# Altium integrated library Microchip PIC16 Part 1.IntLib: 1800 symbols (part 28 of 93)
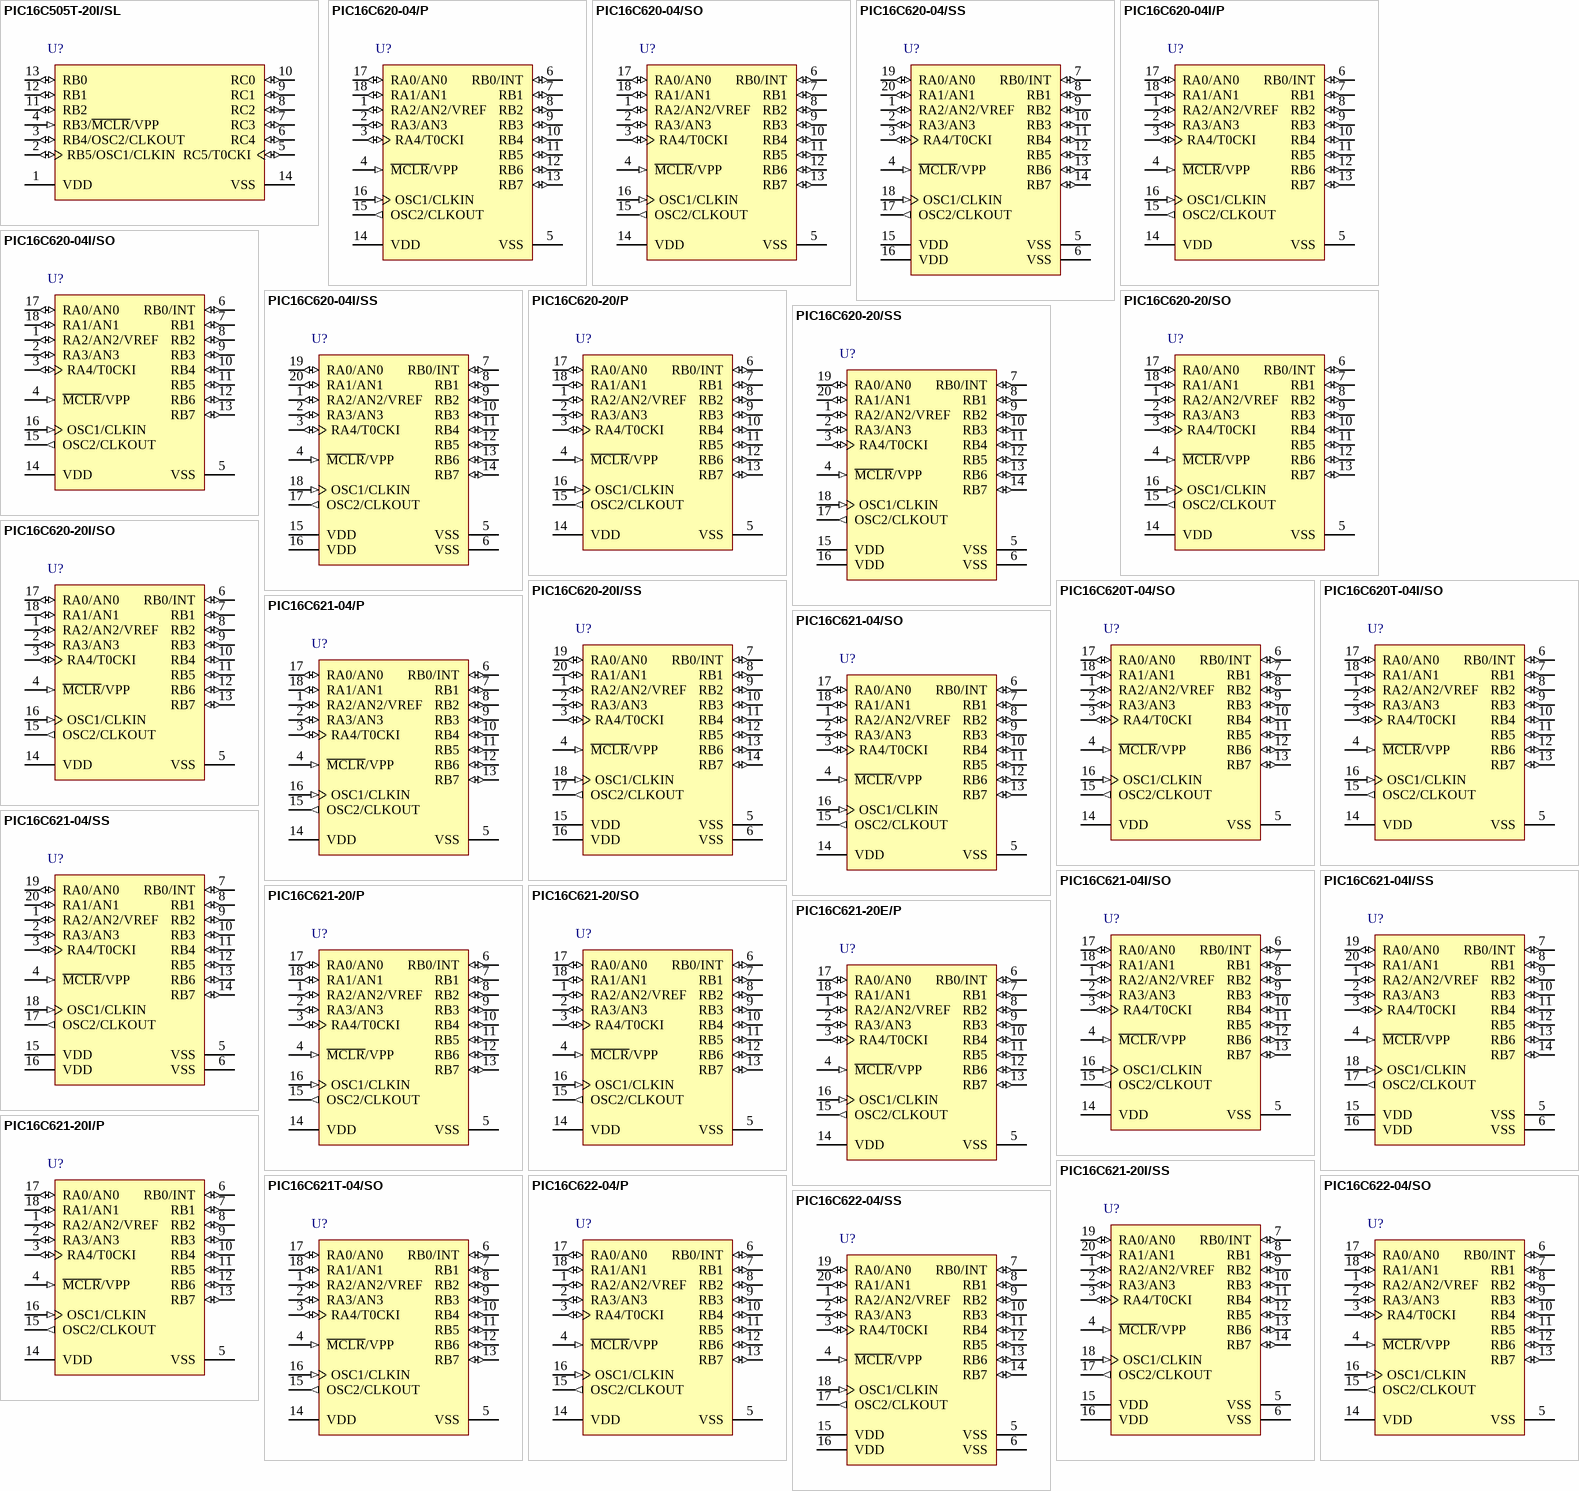
[diagram p127: symbols PIC16C505T-20I/SL to PIC16C622-04/SS]

## PIC16C621-20E/P
designator U?
EPROM-Based 8-Bit CMOS Microcontroller, 20 MHz, 13 I/O, -40 to 125 degC, 18-pin PDIP (P18), Tube; Manufacturer: Microchip; PartNumber: PIC16C621-20E/P; Digital Communication: 0 -UART, 1 -A/E/USART, 0 -SPI, 0 -I2C; I/O Pins: 13; Max. CPU Speed MHz: 20; Memory Type: Flash; Operation Voltage Range: 2.5V - 6V; Program Memory KBytes: 1.75; Program Memory KWords: 1; RAM: 128; Timers: 2 - 8-bit, 1 - 16-bit; DatasheetVersion: Rev. J; PackageVersion: C04-007B, 12/2012; PackageReference: PDIP-P18; PackageDescription: 18-Lead Plastic Dual In-Line, Row Spacing 7.62 mm, 22.86 x 6.6 mm Body, 2.54 mm Pitch; Supplier 1: Digi-Key; Supplier Part Number 1: PIC16C621-20E/P-ND; Supplier 2: Mouser; Supplier Part Number 2: 579-PIC16C621-20E/P; Packing: TUBE; RoHS: TRUE; Mounting Technology: Through Hole; ComponentLink1Description: Datasheet; ComponentLink1URL: http://ww1.microchip.com/downloads/en/DeviceDoc/30235j.pdf; ComponentLink2Description: Package Specification; ComponentLink2URL: http://www.microchip.com/stellent/groups/techpub_sg/documents/packagingspec/en012702.pdf; ComponentLink3Description: URL Link1; ComponentLink3URL: Product URL:http://www.microchip.com/datasheet/PIC16C621
footprint MCHP-PDIP-P18 (DIP, 18-Leads, Body 22.83x6.604mm, Pitch 2.54mm)
pins: 1 RA2/AN2/VREF (io), 2 RA3/AN3 (io), 3 RA4/T0CKI (io), 4 ~{MCLR}/VPP (in), 5 VSS (power) "Ground reference for logic and I/O pins.", 6 RB0/INT (io), 7 RB1 (io) "PORTB is a bi-directional I/O port. PORTB can be software programmed for internal weak pull-up on all inputs.", 8 RB2 (io) "PORTB is a bi-directional I/O port. PORTB can be software programmed for internal weak pull-up on all inputs.", 9 RB3 (io) "PORTB is a bi-directional I/O port. PORTB can be software programmed for internal weak pull-up on all inputs.", 10 RB4 (io) "PORTB is a bi-directional I/O port. PORTB can be software programmed for internal weak pull-up on all inputs. Interrupt-on-change pin.", 11 RB5 (io) "PORTB is a bi-directional I/O port. PORTB can be software programmed for internal weak pull-up on all inputs. Interrupt-on-change pin.", 12 RB6 (io) "PORTB is a bi-directional I/O port. PORTB can be software programmed for internal weak pull-up on all inputs. Interrupt on change pin. Serial programming clock.", 13 RB7 (io) "PORTB is a bi-directional I/O port. PORTB can be software programmed for internal weak pull-up on all inputs. Interrupt on change pin. Serial programming data.", 14 VDD (power) "Positive supply for logic and I/O pins.", 15 OSC2/CLKOUT (out), 16 OSC1/CLKIN (in), 17 RA0/AN0 (io), 18 RA1/AN1 (io)

## PIC16C621-20I/P
designator U?
EPROM-Based 8-Bit CMOS Microcontroller, 20 MHz, 13 I/O, -40 to 85 degC, 18-pin PDIP (P18), Tube; Manufacturer: Microchip; PartNumber: PIC16C621-20I/P; Digital Communication: 0 -UART, 1 -A/E/USART, 0 -SPI, 0 -I2C; I/O Pins: 13; Max. CPU Speed MHz: 20; Memory Type: Flash; Operation Voltage Range: 2.5V - 6V; Program Memory KBytes: 1.75; Program Memory KWords: 1; RAM: 128; Timers: 2 - 8-bit, 1 - 16-bit; DatasheetVersion: Rev. J; PackageVersion: C04-007B, 12/2012; PackageReference: PDIP-P18; PackageDescription: 18-Lead Plastic Dual In-Line, Row Spacing 7.62 mm, 22.86 x 6.6 mm Body, 2.54 mm Pitch; Supplier 1: Digi-Key; Supplier Part Number 1: PIC16C621-20I/P-ND; Supplier 2: Mouser; Supplier Part Number 2: 579-PIC16C621-20I/P; Packing: TUBE; RoHS: TRUE; Mounting Technology: Through Hole; ComponentLink1Description: Datasheet; ComponentLink1URL: http://ww1.microchip.com/downloads/en/DeviceDoc/30235j.pdf; ComponentLink2Description: Package Specification; ComponentLink2URL: http://www.microchip.com/stellent/groups/techpub_sg/documents/packagingspec/en012702.pdf; ComponentLink3Description: URL Link1; ComponentLink3URL: Product URL:http://www.microchip.com/datasheet/PIC16C621
footprint MCHP-PDIP-P18 (DIP, 18-Leads, Body 22.83x6.604mm, Pitch 2.54mm)
pins: 1 RA2/AN2/VREF (io), 2 RA3/AN3 (io), 3 RA4/T0CKI (io), 4 ~{MCLR}/VPP (in), 5 VSS (power) "Ground reference for logic and I/O pins.", 6 RB0/INT (io), 7 RB1 (io) "PORTB is a bi-directional I/O port. PORTB can be software programmed for internal weak pull-up on all inputs.", 8 RB2 (io) "PORTB is a bi-directional I/O port. PORTB can be software programmed for internal weak pull-up on all inputs.", 9 RB3 (io) "PORTB is a bi-directional I/O port. PORTB can be software programmed for internal weak pull-up on all inputs.", 10 RB4 (io) "PORTB is a bi-directional I/O port. PORTB can be software programmed for internal weak pull-up on all inputs. Interrupt-on-change pin.", 11 RB5 (io) "PORTB is a bi-directional I/O port. PORTB can be software programmed for internal weak pull-up on all inputs. Interrupt-on-change pin.", 12 RB6 (io) "PORTB is a bi-directional I/O port. PORTB can be software programmed for internal weak pull-up on all inputs. Interrupt on change pin. Serial programming clock.", 13 RB7 (io) "PORTB is a bi-directional I/O port. PORTB can be software programmed for internal weak pull-up on all inputs. Interrupt on change pin. Serial programming data.", 14 VDD (power) "Positive supply for logic and I/O pins.", 15 OSC2/CLKOUT (out), 16 OSC1/CLKIN (in), 17 RA0/AN0 (io), 18 RA1/AN1 (io)

## PIC16C621-20I/SS
designator U?
EPROM-Based 8-Bit CMOS Microcontroller, 20 MHz, 13 I/O, -40 to 85 degC, 20-pin SSOP (SS20), Tube; Manufacturer: Microchip; PartNumber: PIC16C621-20I/SS; Digital Communication: 0 -UART, 1 -A/E/USART, 0 -SPI, 0 -I2C; I/O Pins: 13; Max. CPU Speed MHz: 20; Memory Type: Flash; Operation Voltage Range: 2.5V - 6V; Program Memory KBytes: 1.75; Program Memory KWords: 1; RAM: 128; Timers: 2 - 8-bit, 1 - 16-bit; DatasheetVersion: Rev. J; PackageVersion: C04-072B, 12/2012; PackageReference: SSOP-SS20; PackageDescription: 20-Lead Plastic Shrink Small Outline, 5.3 x 7.2 mm Body, 0.65 mm Pitch; Supplier 1: Digi-Key; Supplier Part Number 1: PIC16C621-20I/SS-ND; Supplier 2: Mouser; Supplier Part Number 2: 579-PIC16C621-20I/SS; Packing: TUBE; RoHS: TRUE; Mounting Technology: Surface Mount; ComponentLink1Description: Datasheet; ComponentLink1URL: http://ww1.microchip.com/downloads/en/DeviceDoc/30235j.pdf; ComponentLink2Description: Package Specification; ComponentLink2URL: http://www.microchip.com/stellent/groups/techpub_sg/documents/packagingspec/en012702.pdf; ComponentLink3Description: URL Link1; ComponentLink3URL: Product URL:http://www.microchip.com/datasheet/PIC16C621
footprint MCHP-SSOP-SS20_N (SOP, 20-Leads, Body 7.2x5.3mm, Pitch 0.65mm, IPC Medium Density)
footprint MCHP-SSOP-SS20_L (SOP, 20-Leads, Body 7.2x5.3mm, Pitch 0.65mm, IPC High Density)
footprint MCHP-SSOP-SS20_M (SOP, 20-Leads, Body 7.2x5.3mm, Pitch 0.65mm, IPC Low Density)
pins: 1 RA2/AN2/VREF (io), 2 RA3/AN3 (io), 3 RA4/T0CKI (io), 4 ~{MCLR}/VPP (in), 5 VSS (power) "Ground reference for logic and I/O pins.", 6 VSS (power) "Ground reference for logic and I/O pins.", 7 RB0/INT (io), 8 RB1 (io) "PORTB is a bi-directional I/O port. PORTB can be software programmed for internal weak pull-up on all inputs.", 9 RB2 (io) "PORTB is a bi-directional I/O port. PORTB can be software programmed for internal weak pull-up on all inputs.", 10 RB3 (io) "PORTB is a bi-directional I/O port. PORTB can be software programmed for internal weak pull-up on all inputs.", 11 RB4 (io) "PORTB is a bi-directional I/O port. PORTB can be software programmed for internal weak pull-up on all inputs. Interrupt-on-change pin.", 12 RB5 (io) "PORTB is a bi-directional I/O port. PORTB can be software programmed for internal weak pull-up on all inputs. Interrupt-on-change pin.", 13 RB6 (io) "PORTB is a bi-directional I/O port. PORTB can be software programmed for internal weak pull-up on all inputs. Interrupt-on-change pin. Serial programming clock", 14 RB7 (io) "PORTB is a bi-directional I/O port. PORTB can be software programmed for internal weak pull-up on all inputs. Interrupt-on-change pin. Serial programming data", 15 VDD (power) "Positive supply for logic and I/O pins", 16 VDD (power) "Positive supply for logic and I/O pins", 17 OSC2/CLKOUT (out), 18 OSC1/CLKIN (in), 19 RA0/AN0 (io), 20 RA1/AN1 (io)

## PIC16C621T-04/SO
designator U?
EPROM-Based 8-Bit CMOS Microcontroller, 4 MHz, 13 I/O, 0 to 70 degC, 18-pin SOIC (SO18), Tape and Reel; Manufacturer: Microchip; PartNumber: PIC16C621T-04/SO; Digital Communication: 0 -UART, 1 -A/E/USART, 0 -SPI, 0 -I2C; I/O Pins: 13; Max. CPU Speed MHz: 4; Memory Type: OTP; Operation Voltage Range: 3V - 6V; Packing: T/R; Program Memory KBytes: 1.75; Program Memory KWords: 1; RAM: 80; Timers: 1 - 8-bit; DatasheetVersion: Rev. J; PackageVersion: C04-051C, 12/2012; PackageReference: SOIC-SO18; PackageDescription: 18-Lead Plastic Small Outline, 7.5 x 11.55 mm Body, 1.27 mm Pitch; Supplier 1: Digi-Key; Supplier Part Number 1: PIC16C621T-04/SO-ND; Supplier 2: Mouser; Supplier Part Number 2: 579-PIC16C621T-04/SO; RoHS: TRUE; Mounting Technology: Surface Mount; ComponentLink1Description: Datasheet; ComponentLink1URL: http://ww1.microchip.com/downloads/en/DeviceDoc/30235j.pdf; ComponentLink2Description: Package Specification; ComponentLink2URL: http://www.microchip.com/stellent/groups/techpub_sg/documents/packagingspec/en012702.pdf; ComponentLink3Description: URL Link1; ComponentLink3URL: Product URL:http://www.microchip.com/datasheet/PIC16C621
footprint MCHP-SOIC-SO18_N (SOIC, 18-Leads, Body 11.55x7.5mm, Pitch 1.27mm, IPC Medium Density)
footprint MCHP-SOIC-SO18_L (SOIC, 18-Leads, Body 11.55x7.5mm, Pitch 1.27mm, IPC High Density)
footprint MCHP-SOIC-SO18_M (SOIC, 18-Leads, Body 11.55x7.5mm, Pitch 1.27mm, IPC Low Density)
pins: 1 RA2/AN2/VREF (io), 2 RA3/AN3 (io), 3 RA4/T0CKI (io), 4 ~{MCLR}/VPP (in), 5 VSS (power) "Ground reference for logic and I/O pins.", 6 RB0/INT (io), 7 RB1 (io) "PORTB is a bi-directional I/O port. PORTB can be software programmed for internal weak pull-up on all inputs.", 8 RB2 (io) "PORTB is a bi-directional I/O port. PORTB can be software programmed for internal weak pull-up on all inputs.", 9 RB3 (io) "PORTB is a bi-directional I/O port. PORTB can be software programmed for internal weak pull-up on all inputs.", 10 RB4 (io) "PORTB is a bi-directional I/O port. PORTB can be software programmed for internal weak pull-up on all inputs. Interrupt-on-change pin.", 11 RB5 (io) "PORTB is a bi-directional I/O port. PORTB can be software programmed for internal weak pull-up on all inputs. Interrupt-on-change pin.", 12 RB6 (io) "PORTB is a bi-directional I/O port. PORTB can be software programmed for internal weak pull-up on all inputs. Interrupt on change pin. Serial programming clock.", 13 RB7 (io) "PORTB is a bi-directional I/O port. PORTB can be software programmed for internal weak pull-up on all inputs. Interrupt on change pin. Serial programming data.", 14 VDD (power) "Positive supply for logic and I/O pins.", 15 OSC2/CLKOUT (out), 16 OSC1/CLKIN (in), 17 RA0/AN0 (io), 18 RA1/AN1 (io)

## PIC16C622-04/P
designator U?
EPROM-Based 8-Bit CMOS Microcontroller, 4 MHz, 13 I/O, 0 to 70 degC, 18-pin PDIP (P18), Tube; Manufacturer: Microchip; PartNumber: PIC16C622-04/P; Digital Communication: 0 -UART, 1 -A/E/USART, 0 -SPI, 0 -I2C; I/O Pins: 13; Max. CPU Speed MHz: 4; Memory Type: OTP; Operation Voltage Range: 3V - 6V; Program Memory KBytes: 3.5; Program Memory KWords: 2; RAM: 128; Timers: 1 - 8-bit; DatasheetVersion: Rev. J; PackageVersion: C04-007B, 12/2012; PackageReference: PDIP-P18; PackageDescription: 18-Lead Plastic Dual In-Line, Row Spacing 7.62 mm, 22.86 x 6.6 mm Body, 2.54 mm Pitch; Supplier 1: Digi-Key; Supplier Part Number 1: PIC16C622-04/P-ND; Supplier 2: Mouser; Supplier Part Number 2: 579-PIC16C622-04/P; Packing: TUBE; RoHS: TRUE; Mounting Technology: Through Hole; ComponentLink1Description: Datasheet; ComponentLink1URL: http://ww1.microchip.com/downloads/en/DeviceDoc/30235j.pdf; ComponentLink2Description: Package Specification; ComponentLink2URL: http://www.microchip.com/stellent/groups/techpub_sg/documents/packagingspec/en012702.pdf; ComponentLink3Description: URL Link1; ComponentLink3URL: Product URL:http://www.microchip.com/datasheet/PIC16C622
footprint MCHP-PDIP-P18 (DIP, 18-Leads, Body 22.83x6.604mm, Pitch 2.54mm)
pins: 1 RA2/AN2/VREF (io), 2 RA3/AN3 (io), 3 RA4/T0CKI (io), 4 ~{MCLR}/VPP (in), 5 VSS (power) "Ground reference for logic and I/O pins.", 6 RB0/INT (io), 7 RB1 (io) "PORTB is a bi-directional I/O port. PORTB can be software programmed for internal weak pull-up on all inputs.", 8 RB2 (io) "PORTB is a bi-directional I/O port. PORTB can be software programmed for internal weak pull-up on all inputs.", 9 RB3 (io) "PORTB is a bi-directional I/O port. PORTB can be software programmed for internal weak pull-up on all inputs.", 10 RB4 (io) "PORTB is a bi-directional I/O port. PORTB can be software programmed for internal weak pull-up on all inputs. Interrupt-on-change pin.", 11 RB5 (io) "PORTB is a bi-directional I/O port. PORTB can be software programmed for internal weak pull-up on all inputs. Interrupt-on-change pin.", 12 RB6 (io) "PORTB is a bi-directional I/O port. PORTB can be software programmed for internal weak pull-up on all inputs. Interrupt on change pin. Serial programming clock.", 13 RB7 (io) "PORTB is a bi-directional I/O port. PORTB can be software programmed for internal weak pull-up on all inputs. Interrupt on change pin. Serial programming data.", 14 VDD (power) "Positive supply for logic and I/O pins.", 15 OSC2/CLKOUT (out), 16 OSC1/CLKIN (in), 17 RA0/AN0 (io), 18 RA1/AN1 (io)

## PIC16C622-04/SO
designator U?
EPROM-Based 8-Bit CMOS Microcontroller, 4 MHz, 13 I/O, 0 to 70 degC, 18-pin SOIC (SO18), Tube; Manufacturer: Microchip; PartNumber: PIC16C622-04/SO; Digital Communication: 0 -UART, 1 -A/E/USART, 0 -SPI, 0 -I2C; I/O Pins: 13; Max. CPU Speed MHz: 4; Memory Type: OTP; Operation Voltage Range: 3V - 6V; Program Memory KBytes: 3.5; Program Memory KWords: 2; RAM: 128; Timers: 1 - 8-bit; DatasheetVersion: Rev. J; PackageVersion: C04-051C, 12/2012; PackageReference: SOIC-SO18; PackageDescription: 18-Lead Plastic Small Outline, 7.5 x 11.55 mm Body, 1.27 mm Pitch; Supplier 1: Digi-Key; Supplier Part Number 1: PIC16C622-04/SO-ND; Supplier 2: Mouser; Supplier Part Number 2: 579-PIC16C622-04/SO; Packing: TUBE; RoHS: TRUE; Mounting Technology: Surface Mount; ComponentLink1Description: Datasheet; ComponentLink1URL: http://ww1.microchip.com/downloads/en/DeviceDoc/30235j.pdf; ComponentLink2Description: Package Specification; ComponentLink2URL: http://www.microchip.com/stellent/groups/techpub_sg/documents/packagingspec/en012702.pdf; ComponentLink3Description: URL Link1; ComponentLink3URL: Product URL:http://www.microchip.com/datasheet/PIC16C622
footprint MCHP-SOIC-SO18_N (SOIC, 18-Leads, Body 11.55x7.5mm, Pitch 1.27mm, IPC Medium Density)
footprint MCHP-SOIC-SO18_L (SOIC, 18-Leads, Body 11.55x7.5mm, Pitch 1.27mm, IPC High Density)
footprint MCHP-SOIC-SO18_M (SOIC, 18-Leads, Body 11.55x7.5mm, Pitch 1.27mm, IPC Low Density)
pins: 1 RA2/AN2/VREF (io), 2 RA3/AN3 (io), 3 RA4/T0CKI (io), 4 ~{MCLR}/VPP (in), 5 VSS (power) "Ground reference for logic and I/O pins.", 6 RB0/INT (io), 7 RB1 (io) "PORTB is a bi-directional I/O port. PORTB can be software programmed for internal weak pull-up on all inputs.", 8 RB2 (io) "PORTB is a bi-directional I/O port. PORTB can be software programmed for internal weak pull-up on all inputs.", 9 RB3 (io) "PORTB is a bi-directional I/O port. PORTB can be software programmed for internal weak pull-up on all inputs.", 10 RB4 (io) "PORTB is a bi-directional I/O port. PORTB can be software programmed for internal weak pull-up on all inputs. Interrupt-on-change pin.", 11 RB5 (io) "PORTB is a bi-directional I/O port. PORTB can be software programmed for internal weak pull-up on all inputs. Interrupt-on-change pin.", 12 RB6 (io) "PORTB is a bi-directional I/O port. PORTB can be software programmed for internal weak pull-up on all inputs. Interrupt on change pin. Serial programming clock.", 13 RB7 (io) "PORTB is a bi-directional I/O port. PORTB can be software programmed for internal weak pull-up on all inputs. Interrupt on change pin. Serial programming data.", 14 VDD (power) "Positive supply for logic and I/O pins.", 15 OSC2/CLKOUT (out), 16 OSC1/CLKIN (in), 17 RA0/AN0 (io), 18 RA1/AN1 (io)

## PIC16C622-04/SS
designator U?
EPROM-Based 8-Bit CMOS Microcontroller, 4 MHz, 13 I/O, 0 to 70 degC, 20-pin SSOP (SS20), Tube; Manufacturer: Microchip; PartNumber: PIC16C622-04/SS; Digital Communication: 0 -UART, 1 -A/E/USART, 0 -SPI, 0 -I2C; I/O Pins: 13; Max. CPU Speed MHz: 4; Memory Type: OTP; Operation Voltage Range: 3V - 6V; Program Memory KBytes: 3.5; Program Memory KWords: 2; RAM: 128; Timers: 1 - 8-bit; DatasheetVersion: Rev. J; PackageVersion: C04-072B, 12/2012; PackageReference: SSOP-SS20; PackageDescription: 20-Lead Plastic Shrink Small Outline, 5.3 x 7.2 mm Body, 0.65 mm Pitch; Supplier 1: Digi-Key; Supplier Part Number 1: PIC16C622-04/SS-ND; Supplier 2: Mouser; Supplier Part Number 2: 579-PIC16C622-04/SS; Packing: TUBE; RoHS: TRUE; Mounting Technology: Surface Mount; ComponentLink1Description: Datasheet; ComponentLink1URL: http://ww1.microchip.com/downloads/en/DeviceDoc/30235j.pdf; ComponentLink2Description: Package Specification; ComponentLink2URL: http://www.microchip.com/stellent/groups/techpub_sg/documents/packagingspec/en012702.pdf; ComponentLink3Description: URL Link1; ComponentLink3URL: Product URL:http://www.microchip.com/datasheet/PIC16C622
footprint MCHP-SSOP-SS20_N (SOP, 20-Leads, Body 7.2x5.3mm, Pitch 0.65mm, IPC Medium Density)
footprint MCHP-SSOP-SS20_L (SOP, 20-Leads, Body 7.2x5.3mm, Pitch 0.65mm, IPC High Density)
footprint MCHP-SSOP-SS20_M (SOP, 20-Leads, Body 7.2x5.3mm, Pitch 0.65mm, IPC Low Density)
pins: 1 RA2/AN2/VREF (io), 2 RA3/AN3 (io), 3 RA4/T0CKI (io), 4 ~{MCLR}/VPP (in), 5 VSS (power) "Ground reference for logic and I/O pins.", 6 VSS (power) "Ground reference for logic and I/O pins.", 7 RB0/INT (io), 8 RB1 (io) "PORTB is a bi-directional I/O port. PORTB can be software programmed for internal weak pull-up on all inputs.", 9 RB2 (io) "PORTB is a bi-directional I/O port. PORTB can be software programmed for internal weak pull-up on all inputs.", 10 RB3 (io) "PORTB is a bi-directional I/O port. PORTB can be software programmed for internal weak pull-up on all inputs.", 11 RB4 (io) "PORTB is a bi-directional I/O port. PORTB can be software programmed for internal weak pull-up on all inputs. Interrupt-on-change pin.", 12 RB5 (io) "PORTB is a bi-directional I/O port. PORTB can be software programmed for internal weak pull-up on all inputs. Interrupt-on-change pin.", 13 RB6 (io) "PORTB is a bi-directional I/O port. PORTB can be software programmed for internal weak pull-up on all inputs. Interrupt-on-change pin. Serial programming clock", 14 RB7 (io) "PORTB is a bi-directional I/O port. PORTB can be software programmed for internal weak pull-up on all inputs. Interrupt-on-change pin. Serial programming data", 15 VDD (power) "Positive supply for logic and I/O pins", 16 VDD (power) "Positive supply for logic and I/O pins", 17 OSC2/CLKOUT (out), 18 OSC1/CLKIN (in), 19 RA0/AN0 (io), 20 RA1/AN1 (io)

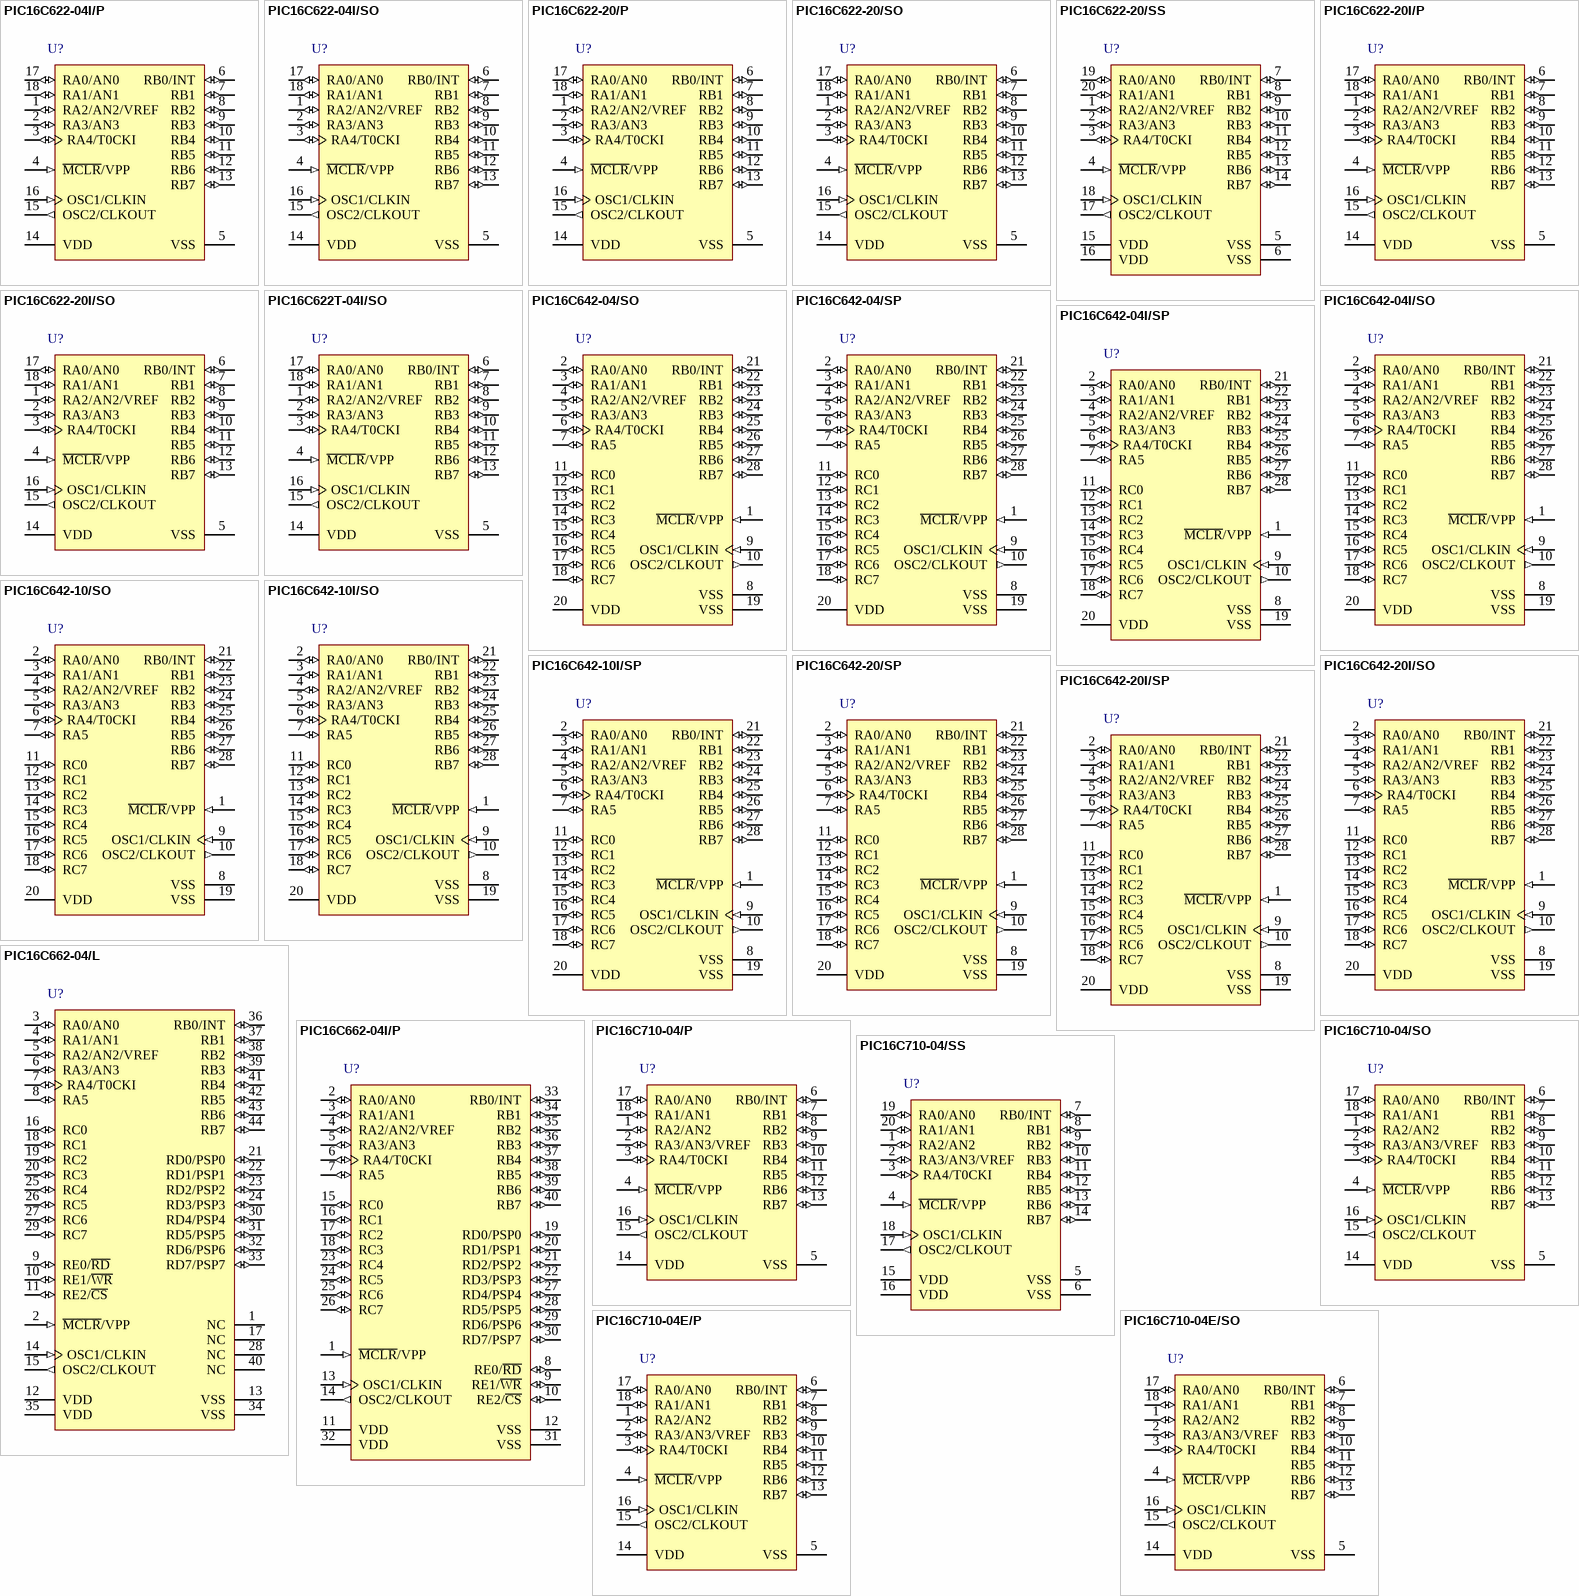
[diagram p25: symbols PIC16C622-04I/P to PIC16C710-04E/SO]

## PIC16C622-04I/P
designator U?
EPROM-Based 8-Bit CMOS Microcontroller, 4 MHz, 13 I/O, -40 to 85 degC, 18-pin PDIP (P18), Tube; Manufacturer: Microchip; PartNumber: PIC16C622-04I/P; Digital Communication: 0 -UART, 1 -A/E/USART, 0 -SPI, 0 -I2C; I/O Pins: 13; Max. CPU Speed MHz: 4; Memory Type: OTP; Operation Voltage Range: 3V - 6V; Program Memory KBytes: 3.5; Program Memory KWords: 2; RAM: 128; Timers: 1 - 8-bit; DatasheetVersion: Rev. J; PackageVersion: C04-007B, 12/2012; PackageReference: PDIP-P18; PackageDescription: 18-Lead Plastic Dual In-Line, Row Spacing 7.62 mm, 22.86 x 6.6 mm Body, 2.54 mm Pitch; Supplier 1: Digi-Key; Supplier Part Number 1: PIC16C622-04I/P-ND; Supplier 2: Mouser; Supplier Part Number 2: 579-PIC16C622-04I/P; Packing: TUBE; RoHS: TRUE; Mounting Technology: Through Hole; ComponentLink1Description: Datasheet; ComponentLink1URL: http://ww1.microchip.com/downloads/en/DeviceDoc/30235j.pdf; ComponentLink2Description: Package Specification; ComponentLink2URL: http://www.microchip.com/stellent/groups/techpub_sg/documents/packagingspec/en012702.pdf; ComponentLink3Description: URL Link1; ComponentLink3URL: Product URL:http://www.microchip.com/datasheet/PIC16C622
footprint MCHP-PDIP-P18 (DIP, 18-Leads, Body 22.83x6.604mm, Pitch 2.54mm)
pins: 1 RA2/AN2/VREF (io), 2 RA3/AN3 (io), 3 RA4/T0CKI (io), 4 ~{MCLR}/VPP (in), 5 VSS (power) "Ground reference for logic and I/O pins.", 6 RB0/INT (io), 7 RB1 (io) "PORTB is a bi-directional I/O port. PORTB can be software programmed for internal weak pull-up on all inputs.", 8 RB2 (io) "PORTB is a bi-directional I/O port. PORTB can be software programmed for internal weak pull-up on all inputs.", 9 RB3 (io) "PORTB is a bi-directional I/O port. PORTB can be software programmed for internal weak pull-up on all inputs.", 10 RB4 (io) "PORTB is a bi-directional I/O port. PORTB can be software programmed for internal weak pull-up on all inputs. Interrupt-on-change pin.", 11 RB5 (io) "PORTB is a bi-directional I/O port. PORTB can be software programmed for internal weak pull-up on all inputs. Interrupt-on-change pin.", 12 RB6 (io) "PORTB is a bi-directional I/O port. PORTB can be software programmed for internal weak pull-up on all inputs. Interrupt on change pin. Serial programming clock.", 13 RB7 (io) "PORTB is a bi-directional I/O port. PORTB can be software programmed for internal weak pull-up on all inputs. Interrupt on change pin. Serial programming data.", 14 VDD (power) "Positive supply for logic and I/O pins.", 15 OSC2/CLKOUT (out), 16 OSC1/CLKIN (in), 17 RA0/AN0 (io), 18 RA1/AN1 (io)

## PIC16C622-04I/SO
designator U?
EPROM-Based 8-Bit CMOS Microcontroller, 4 MHz, 13 I/O, -40 to 85 degC, 18-pin SOIC (SO18), Tube; Manufacturer: Microchip; PartNumber: PIC16C622-04I/SO; Digital Communication: 0 -UART, 1 -A/E/USART, 0 -SPI, 0 -I2C; I/O Pins: 13; Max. CPU Speed MHz: 4; Memory Type: OTP; Operation Voltage Range: 3V - 6V; Program Memory KBytes: 3.5; Program Memory KWords: 2; RAM: 128; Timers: 1 - 8-bit; DatasheetVersion: Rev. J; PackageVersion: C04-051C, 12/2012; PackageReference: SOIC-SO18; PackageDescription: 18-Lead Plastic Small Outline, 7.5 x 11.55 mm Body, 1.27 mm Pitch; Supplier 1: Digi-Key; Supplier Part Number 1: PIC16C622-04I/SO-ND; Supplier 2: Mouser; Supplier Part Number 2: 579-PIC16C622-04I/SO; Packing: TUBE; RoHS: TRUE; Mounting Technology: Surface Mount; ComponentLink1Description: Datasheet; ComponentLink1URL: http://ww1.microchip.com/downloads/en/DeviceDoc/30235j.pdf; ComponentLink2Description: Package Specification; ComponentLink2URL: http://www.microchip.com/stellent/groups/techpub_sg/documents/packagingspec/en012702.pdf; ComponentLink3Description: URL Link1; ComponentLink3URL: Product URL:http://www.microchip.com/datasheet/PIC16C622
footprint MCHP-SOIC-SO18_N (SOIC, 18-Leads, Body 11.55x7.5mm, Pitch 1.27mm, IPC Medium Density)
footprint MCHP-SOIC-SO18_L (SOIC, 18-Leads, Body 11.55x7.5mm, Pitch 1.27mm, IPC High Density)
footprint MCHP-SOIC-SO18_M (SOIC, 18-Leads, Body 11.55x7.5mm, Pitch 1.27mm, IPC Low Density)
pins: 1 RA2/AN2/VREF (io), 2 RA3/AN3 (io), 3 RA4/T0CKI (io), 4 ~{MCLR}/VPP (in), 5 VSS (power) "Ground reference for logic and I/O pins.", 6 RB0/INT (io), 7 RB1 (io) "PORTB is a bi-directional I/O port. PORTB can be software programmed for internal weak pull-up on all inputs.", 8 RB2 (io) "PORTB is a bi-directional I/O port. PORTB can be software programmed for internal weak pull-up on all inputs.", 9 RB3 (io) "PORTB is a bi-directional I/O port. PORTB can be software programmed for internal weak pull-up on all inputs.", 10 RB4 (io) "PORTB is a bi-directional I/O port. PORTB can be software programmed for internal weak pull-up on all inputs. Interrupt-on-change pin.", 11 RB5 (io) "PORTB is a bi-directional I/O port. PORTB can be software programmed for internal weak pull-up on all inputs. Interrupt-on-change pin.", 12 RB6 (io) "PORTB is a bi-directional I/O port. PORTB can be software programmed for internal weak pull-up on all inputs. Interrupt on change pin. Serial programming clock.", 13 RB7 (io) "PORTB is a bi-directional I/O port. PORTB can be software programmed for internal weak pull-up on all inputs. Interrupt on change pin. Serial programming data.", 14 VDD (power) "Positive supply for logic and I/O pins.", 15 OSC2/CLKOUT (out), 16 OSC1/CLKIN (in), 17 RA0/AN0 (io), 18 RA1/AN1 (io)

## PIC16C622-20/P
designator U?
EPROM-Based 8-Bit CMOS Microcontroller, 20 MHz, 13 I/O, 0 to 70 degC, 18-pin PDIP (P18), Tube; Manufacturer: Microchip; PartNumber: PIC16C622-20/P; Digital Communication: 0 -UART, 1 -A/E/USART, 0 -SPI, 0 -I2C; I/O Pins: 13; Max. CPU Speed MHz: 20; Memory Type: OTP; Operation Voltage Range: 3V - 6V; Program Memory KBytes: 3.5; Program Memory KWords: 2; RAM: 128; Timers: 1 - 8-bit; DatasheetVersion: Rev. J; PackageVersion: C04-007B, 12/2012; PackageReference: PDIP-P18; PackageDescription: 18-Lead Plastic Dual In-Line, Row Spacing 7.62 mm, 22.86 x 6.6 mm Body, 2.54 mm Pitch; Supplier 1: Digi-Key; Supplier Part Number 1: PIC16C622-20/P-ND; Supplier 2: Mouser; Supplier Part Number 2: 579-PIC16C622-20/P; Packing: TUBE; RoHS: TRUE; Mounting Technology: Through Hole; ComponentLink1Description: Datasheet; ComponentLink1URL: http://ww1.microchip.com/downloads/en/DeviceDoc/30235j.pdf; ComponentLink2Description: Package Specification; ComponentLink2URL: http://www.microchip.com/stellent/groups/techpub_sg/documents/packagingspec/en012702.pdf; ComponentLink3Description: URL Link1; ComponentLink3URL: Product URL:http://www.microchip.com/datasheet/PIC16C622
footprint MCHP-PDIP-P18 (DIP, 18-Leads, Body 22.83x6.604mm, Pitch 2.54mm)
pins: 1 RA2/AN2/VREF (io), 2 RA3/AN3 (io), 3 RA4/T0CKI (io), 4 ~{MCLR}/VPP (in), 5 VSS (power) "Ground reference for logic and I/O pins.", 6 RB0/INT (io), 7 RB1 (io) "PORTB is a bi-directional I/O port. PORTB can be software programmed for internal weak pull-up on all inputs.", 8 RB2 (io) "PORTB is a bi-directional I/O port. PORTB can be software programmed for internal weak pull-up on all inputs.", 9 RB3 (io) "PORTB is a bi-directional I/O port. PORTB can be software programmed for internal weak pull-up on all inputs.", 10 RB4 (io) "PORTB is a bi-directional I/O port. PORTB can be software programmed for internal weak pull-up on all inputs. Interrupt-on-change pin.", 11 RB5 (io) "PORTB is a bi-directional I/O port. PORTB can be software programmed for internal weak pull-up on all inputs. Interrupt-on-change pin.", 12 RB6 (io) "PORTB is a bi-directional I/O port. PORTB can be software programmed for internal weak pull-up on all inputs. Interrupt on change pin. Serial programming clock.", 13 RB7 (io) "PORTB is a bi-directional I/O port. PORTB can be software programmed for internal weak pull-up on all inputs. Interrupt on change pin. Serial programming data.", 14 VDD (power) "Positive supply for logic and I/O pins.", 15 OSC2/CLKOUT (out), 16 OSC1/CLKIN (in), 17 RA0/AN0 (io), 18 RA1/AN1 (io)

## PIC16C622-20/SO
designator U?
EPROM-Based 8-Bit CMOS Microcontroller, 20 MHz, 13 I/O, 0 to 70 degC, 18-pin SOIC (SO18), Tube; Manufacturer: Microchip; PartNumber: PIC16C622-20/SO; Digital Communication: 0 -UART, 1 -A/E/USART, 0 -SPI, 0 -I2C; I/O Pins: 13; Max. CPU Speed MHz: 20; Memory Type: OTP; Operation Voltage Range: 3V - 6V; Program Memory KBytes: 3.5; Program Memory KWords: 2; RAM: 128; Timers: 1 - 8-bit; DatasheetVersion: Rev. J; PackageVersion: C04-051C, 12/2012; PackageReference: SOIC-SO18; PackageDescription: 18-Lead Plastic Small Outline, 7.5 x 11.55 mm Body, 1.27 mm Pitch; Supplier 1: Digi-Key; Supplier Part Number 1: PIC16C622-20/SO-ND; Supplier 2: Mouser; Supplier Part Number 2: 579-PIC16C622-20/SO; Packing: TUBE; RoHS: TRUE; Mounting Technology: Surface Mount; ComponentLink1Description: Datasheet; ComponentLink1URL: http://ww1.microchip.com/downloads/en/DeviceDoc/30235j.pdf; ComponentLink2Description: Package Specification; ComponentLink2URL: http://www.microchip.com/stellent/groups/techpub_sg/documents/packagingspec/en012702.pdf; ComponentLink3Description: URL Link1; ComponentLink3URL: Product URL:http://www.microchip.com/datasheet/PIC16C622
footprint MCHP-SOIC-SO18_N (SOIC, 18-Leads, Body 11.55x7.5mm, Pitch 1.27mm, IPC Medium Density)
footprint MCHP-SOIC-SO18_L (SOIC, 18-Leads, Body 11.55x7.5mm, Pitch 1.27mm, IPC High Density)
footprint MCHP-SOIC-SO18_M (SOIC, 18-Leads, Body 11.55x7.5mm, Pitch 1.27mm, IPC Low Density)
pins: 1 RA2/AN2/VREF (io), 2 RA3/AN3 (io), 3 RA4/T0CKI (io), 4 ~{MCLR}/VPP (in), 5 VSS (power) "Ground reference for logic and I/O pins.", 6 RB0/INT (io), 7 RB1 (io) "PORTB is a bi-directional I/O port. PORTB can be software programmed for internal weak pull-up on all inputs.", 8 RB2 (io) "PORTB is a bi-directional I/O port. PORTB can be software programmed for internal weak pull-up on all inputs.", 9 RB3 (io) "PORTB is a bi-directional I/O port. PORTB can be software programmed for internal weak pull-up on all inputs.", 10 RB4 (io) "PORTB is a bi-directional I/O port. PORTB can be software programmed for internal weak pull-up on all inputs. Interrupt-on-change pin.", 11 RB5 (io) "PORTB is a bi-directional I/O port. PORTB can be software programmed for internal weak pull-up on all inputs. Interrupt-on-change pin.", 12 RB6 (io) "PORTB is a bi-directional I/O port. PORTB can be software programmed for internal weak pull-up on all inputs. Interrupt on change pin. Serial programming clock.", 13 RB7 (io) "PORTB is a bi-directional I/O port. PORTB can be software programmed for internal weak pull-up on all inputs. Interrupt on change pin. Serial programming data.", 14 VDD (power) "Positive supply for logic and I/O pins.", 15 OSC2/CLKOUT (out), 16 OSC1/CLKIN (in), 17 RA0/AN0 (io), 18 RA1/AN1 (io)

## PIC16C622-20/SS
designator U?
EPROM-Based 8-Bit CMOS Microcontroller, 20 MHz, 13 I/O, 0 to 70 degC, 20-pin SSOP (SS20), Tube; Manufacturer: Microchip; PartNumber: PIC16C622-20/SS; Digital Communication: 0 -UART, 1 -A/E/USART, 0 -SPI, 0 -I2C; I/O Pins: 13; Max. CPU Speed MHz: 20; Memory Type: OTP; Operation Voltage Range: 3V - 6V; Program Memory KBytes: 3.5; Program Memory KWords: 2; RAM: 128; Timers: 1 - 8-bit; DatasheetVersion: Rev. J; PackageVersion: C04-072B, 12/2012; PackageReference: SSOP-SS20; PackageDescription: 20-Lead Plastic Shrink Small Outline, 5.3 x 7.2 mm Body, 0.65 mm Pitch; Supplier 1: Digi-Key; Supplier Part Number 1: PIC16C622-20/SS-ND; Supplier 2: Mouser; Supplier Part Number 2: 579-PIC16C622-20/SS; Packing: TUBE; RoHS: TRUE; Mounting Technology: Surface Mount; ComponentLink1Description: Datasheet; ComponentLink1URL: http://ww1.microchip.com/downloads/en/DeviceDoc/30235j.pdf; ComponentLink2Description: Package Specification; ComponentLink2URL: http://www.microchip.com/stellent/groups/techpub_sg/documents/packagingspec/en012702.pdf; ComponentLink3Description: URL Link1; ComponentLink3URL: Product URL:http://www.microchip.com/datasheet/PIC16C622
footprint MCHP-SSOP-SS20_N (SOP, 20-Leads, Body 7.2x5.3mm, Pitch 0.65mm, IPC Medium Density)
footprint MCHP-SSOP-SS20_L (SOP, 20-Leads, Body 7.2x5.3mm, Pitch 0.65mm, IPC High Density)
footprint MCHP-SSOP-SS20_M (SOP, 20-Leads, Body 7.2x5.3mm, Pitch 0.65mm, IPC Low Density)
pins: 1 RA2/AN2/VREF (io), 2 RA3/AN3 (io), 3 RA4/T0CKI (io), 4 ~{MCLR}/VPP (in), 5 VSS (power) "Ground reference for logic and I/O pins.", 6 VSS (power) "Ground reference for logic and I/O pins.", 7 RB0/INT (io), 8 RB1 (io) "PORTB is a bi-directional I/O port. PORTB can be software programmed for internal weak pull-up on all inputs.", 9 RB2 (io) "PORTB is a bi-directional I/O port. PORTB can be software programmed for internal weak pull-up on all inputs.", 10 RB3 (io) "PORTB is a bi-directional I/O port. PORTB can be software programmed for internal weak pull-up on all inputs.", 11 RB4 (io) "PORTB is a bi-directional I/O port. PORTB can be software programmed for internal weak pull-up on all inputs. Interrupt-on-change pin.", 12 RB5 (io) "PORTB is a bi-directional I/O port. PORTB can be software programmed for internal weak pull-up on all inputs. Interrupt-on-change pin.", 13 RB6 (io) "PORTB is a bi-directional I/O port. PORTB can be software programmed for internal weak pull-up on all inputs. Interrupt-on-change pin. Serial programming clock", 14 RB7 (io) "PORTB is a bi-directional I/O port. PORTB can be software programmed for internal weak pull-up on all inputs. Interrupt-on-change pin. Serial programming data", 15 VDD (power) "Positive supply for logic and I/O pins", 16 VDD (power) "Positive supply for logic and I/O pins", 17 OSC2/CLKOUT (out), 18 OSC1/CLKIN (in), 19 RA0/AN0 (io), 20 RA1/AN1 (io)

## PIC16C622-20I/P
designator U?
EPROM-Based 8-Bit CMOS Microcontroller, 20 MHz, 13 I/O, -40 to 85 degC, 18-pin PDIP (P18), Tube; Manufacturer: Microchip; PartNumber: PIC16C622-20I/P; Digital Communication: 0 -UART, 1 -A/E/USART, 0 -SPI, 0 -I2C; I/O Pins: 13; Max. CPU Speed MHz: 20; Memory Type: OTP; Operation Voltage Range: 3V - 6V; Program Memory KBytes: 3.5; Program Memory KWords: 2; RAM: 128; Timers: 1 - 8-bit; DatasheetVersion: Rev. J; PackageVersion: C04-007B, 12/2012; PackageReference: PDIP-P18; PackageDescription: 18-Lead Plastic Dual In-Line, Row Spacing 7.62 mm, 22.86 x 6.6 mm Body, 2.54 mm Pitch; Supplier 1: Digi-Key; Supplier Part Number 1: PIC16C622-20I/P-ND; Supplier 2: Mouser; Supplier Part Number 2: 579-PIC16C622-20I/P; Packing: TUBE; RoHS: TRUE; Mounting Technology: Through Hole; ComponentLink1Description: Datasheet; ComponentLink1URL: http://ww1.microchip.com/downloads/en/DeviceDoc/30235j.pdf; ComponentLink2Description: Package Specification; ComponentLink2URL: http://www.microchip.com/stellent/groups/techpub_sg/documents/packagingspec/en012702.pdf; ComponentLink3Description: URL Link1; ComponentLink3URL: Product URL:http://www.microchip.com/datasheet/PIC16C622
footprint MCHP-PDIP-P18 (DIP, 18-Leads, Body 22.83x6.604mm, Pitch 2.54mm)
pins: 1 RA2/AN2/VREF (io), 2 RA3/AN3 (io), 3 RA4/T0CKI (io), 4 ~{MCLR}/VPP (in), 5 VSS (power) "Ground reference for logic and I/O pins.", 6 RB0/INT (io), 7 RB1 (io) "PORTB is a bi-directional I/O port. PORTB can be software programmed for internal weak pull-up on all inputs.", 8 RB2 (io) "PORTB is a bi-directional I/O port. PORTB can be software programmed for internal weak pull-up on all inputs.", 9 RB3 (io) "PORTB is a bi-directional I/O port. PORTB can be software programmed for internal weak pull-up on all inputs.", 10 RB4 (io) "PORTB is a bi-directional I/O port. PORTB can be software programmed for internal weak pull-up on all inputs. Interrupt-on-change pin.", 11 RB5 (io) "PORTB is a bi-directional I/O port. PORTB can be software programmed for internal weak pull-up on all inputs. Interrupt-on-change pin.", 12 RB6 (io) "PORTB is a bi-directional I/O port. PORTB can be software programmed for internal weak pull-up on all inputs. Interrupt on change pin. Serial programming clock.", 13 RB7 (io) "PORTB is a bi-directional I/O port. PORTB can be software programmed for internal weak pull-up on all inputs. Interrupt on change pin. Serial programming data.", 14 VDD (power) "Positive supply for logic and I/O pins.", 15 OSC2/CLKOUT (out), 16 OSC1/CLKIN (in), 17 RA0/AN0 (io), 18 RA1/AN1 (io)

## PIC16C622-20I/SO
designator U?
EPROM-Based 8-Bit CMOS Microcontroller, 20 MHz, 13 I/O, -40 to 85 degC, 18-pin SOIC (SO18), Tube; Manufacturer: Microchip; PartNumber: PIC16C622-20I/SO; Digital Communication: 0 -UART, 1 -A/E/USART, 0 -SPI, 0 -I2C; I/O Pins: 13; Max. CPU Speed MHz: 20; Memory Type: OTP; Operation Voltage Range: 3V - 6V; Program Memory KBytes: 3.5; Program Memory KWords: 2; RAM: 128; Timers: 1 - 8-bit; DatasheetVersion: Rev. J; PackageVersion: C04-051C, 12/2012; PackageReference: SOIC-SO18; PackageDescription: 18-Lead Plastic Small Outline, 7.5 x 11.55 mm Body, 1.27 mm Pitch; Supplier 1: Digi-Key; Supplier Part Number 1: PIC16C622-20I/SO-ND; Supplier 2: Mouser; Supplier Part Number 2: 579-PIC16C622-20I/SO; Packing: TUBE; RoHS: TRUE; Mounting Technology: Surface Mount; ComponentLink1Description: Datasheet; ComponentLink1URL: http://ww1.microchip.com/downloads/en/DeviceDoc/30235j.pdf; ComponentLink2Description: Package Specification; ComponentLink2URL: http://www.microchip.com/stellent/groups/techpub_sg/documents/packagingspec/en012702.pdf; ComponentLink3Description: URL Link1; ComponentLink3URL: Product URL:http://www.microchip.com/datasheet/PIC16C622
footprint MCHP-SOIC-SO18_N (SOIC, 18-Leads, Body 11.55x7.5mm, Pitch 1.27mm, IPC Medium Density)
footprint MCHP-SOIC-SO18_L (SOIC, 18-Leads, Body 11.55x7.5mm, Pitch 1.27mm, IPC High Density)
footprint MCHP-SOIC-SO18_M (SOIC, 18-Leads, Body 11.55x7.5mm, Pitch 1.27mm, IPC Low Density)
pins: 1 RA2/AN2/VREF (io), 2 RA3/AN3 (io), 3 RA4/T0CKI (io), 4 ~{MCLR}/VPP (in), 5 VSS (power) "Ground reference for logic and I/O pins.", 6 RB0/INT (io), 7 RB1 (io) "PORTB is a bi-directional I/O port. PORTB can be software programmed for internal weak pull-up on all inputs.", 8 RB2 (io) "PORTB is a bi-directional I/O port. PORTB can be software programmed for internal weak pull-up on all inputs.", 9 RB3 (io) "PORTB is a bi-directional I/O port. PORTB can be software programmed for internal weak pull-up on all inputs.", 10 RB4 (io) "PORTB is a bi-directional I/O port. PORTB can be software programmed for internal weak pull-up on all inputs. Interrupt-on-change pin.", 11 RB5 (io) "PORTB is a bi-directional I/O port. PORTB can be software programmed for internal weak pull-up on all inputs. Interrupt-on-change pin.", 12 RB6 (io) "PORTB is a bi-directional I/O port. PORTB can be software programmed for internal weak pull-up on all inputs. Interrupt on change pin. Serial programming clock.", 13 RB7 (io) "PORTB is a bi-directional I/O port. PORTB can be software programmed for internal weak pull-up on all inputs. Interrupt on change pin. Serial programming data.", 14 VDD (power) "Positive supply for logic and I/O pins.", 15 OSC2/CLKOUT (out), 16 OSC1/CLKIN (in), 17 RA0/AN0 (io), 18 RA1/AN1 (io)

## PIC16C622T-04I/SO
designator U?
EPROM-Based 8-Bit CMOS Microcontroller, 4 MHz, 13 I/O, -40 to 85 degC, 18-pin SOIC (SO18), Tape and Reel; Manufacturer: Microchip; PartNumber: PIC16C622T-04I/SO; Digital Communication: 0 -UART, 1 -A/E/USART, 0 -SPI, 0 -I2C; I/O Pins: 13; Max. CPU Speed MHz: 4; Memory Type: OTP; Operation Voltage Range: 3V - 6V; Packing: T/R; Program Memory KBytes: 3.5; Program Memory KWords: 2; RAM: 128; Timers: 1 - 8-bit; DatasheetVersion: Rev. J; PackageVersion: C04-051C, 12/2012; PackageReference: SOIC-SO18; PackageDescription: 18-Lead Plastic Small Outline, 7.5 x 11.55 mm Body, 1.27 mm Pitch; Supplier 1: Digi-Key; Supplier Part Number 1: PIC16C622T-04I/SO-ND; Supplier 2: Mouser; Supplier Part Number 2: 579-16C622T-04I/SO; RoHS: TRUE; Mounting Technology: Surface Mount; ComponentLink1Description: Datasheet; ComponentLink1URL: http://ww1.microchip.com/downloads/en/DeviceDoc/30235j.pdf; ComponentLink2Description: Package Specification; ComponentLink2URL: http://www.microchip.com/stellent/groups/techpub_sg/documents/packagingspec/en012702.pdf; ComponentLink3Description: URL Link1; ComponentLink3URL: Product URL:http://www.microchip.com/datasheet/PIC16C622
footprint MCHP-SOIC-SO18_N (SOIC, 18-Leads, Body 11.55x7.5mm, Pitch 1.27mm, IPC Medium Density)
footprint MCHP-SOIC-SO18_L (SOIC, 18-Leads, Body 11.55x7.5mm, Pitch 1.27mm, IPC High Density)
footprint MCHP-SOIC-SO18_M (SOIC, 18-Leads, Body 11.55x7.5mm, Pitch 1.27mm, IPC Low Density)
pins: 1 RA2/AN2/VREF (io), 2 RA3/AN3 (io), 3 RA4/T0CKI (io), 4 ~{MCLR}/VPP (in), 5 VSS (power) "Ground reference for logic and I/O pins.", 6 RB0/INT (io), 7 RB1 (io) "PORTB is a bi-directional I/O port. PORTB can be software programmed for internal weak pull-up on all inputs.", 8 RB2 (io) "PORTB is a bi-directional I/O port. PORTB can be software programmed for internal weak pull-up on all inputs.", 9 RB3 (io) "PORTB is a bi-directional I/O port. PORTB can be software programmed for internal weak pull-up on all inputs.", 10 RB4 (io) "PORTB is a bi-directional I/O port. PORTB can be software programmed for internal weak pull-up on all inputs. Interrupt-on-change pin.", 11 RB5 (io) "PORTB is a bi-directional I/O port. PORTB can be software programmed for internal weak pull-up on all inputs. Interrupt-on-change pin.", 12 RB6 (io) "PORTB is a bi-directional I/O port. PORTB can be software programmed for internal weak pull-up on all inputs. Interrupt on change pin. Serial programming clock.", 13 RB7 (io) "PORTB is a bi-directional I/O port. PORTB can be software programmed for internal weak pull-up on all inputs. Interrupt on change pin. Serial programming data.", 14 VDD (power) "Positive supply for logic and I/O pins.", 15 OSC2/CLKOUT (out), 16 OSC1/CLKIN (in), 17 RA0/AN0 (io), 18 RA1/AN1 (io)

## PIC16C642-04/SO
designator U?
8-Bit EPROM Microcontroller with Analog Comparator, 4 MHz, 22 I/O, 0 to 70 degC, 28-pin SOIC (SO28), Tube; Manufacturer: Microchip; PartNumber: PIC16C642-04/SO; I/O Pins: 22; Max. CPU Speed MHz: 20; Memory Type: OTP; Operation Voltage Range: 3V - 6V; Program Memory KBytes: 7; Program Memory KWords: 4; RAM: 176; Timers: 1 - 8-bit; DatasheetVersion: Rev. A; PackageVersion: C04-052C, 12/2012; PackageReference: SOIC-SO28; PackageDescription: 28-Lead Plastic Small Outline, 17.9 x 7.5 mm Body, 1.27 mm Pitch; Supplier 1: Digi-Key; Supplier Part Number 1: PIC16C642-04/SO-ND; Supplier 2: Newark; Supplier Part Number 2: 23C4139; Supplier 3: Mouser; Supplier Part Number 3: 579-PIC16C642-04/SO; Packing: TUBE; RoHS: TRUE; Mounting Technology: Surface Mount; ComponentLink1Description: Datasheet; ComponentLink1URL: http://ww1.microchip.com/downloads/en/DeviceDoc/30559a.pdf; ComponentLink2Description: Package Specification; ComponentLink2URL: http://www.microchip.com/stellent/groups/techpub_sg/documents/packagingspec/en012702.pdf; ComponentLink3Description: URL Link1; ComponentLink3URL: Product URL:http://www.microchip.com/datasheet/PIC16C642
footprint MCHP-SOIC-SO28_N (SOIC, 28-Leads, Body 17.9x7.5mm, Pitch 1.27mm, IPC Medium Density)
footprint MCHP-SOIC-SO28_L (SOIC, 28-Leads, Body 17.9x7.5mm, Pitch 1.27mm, IPC High Density)
footprint MCHP-SOIC-SO28_M (SOIC, 28-Leads, Body 17.9x7.5mm, Pitch 1.27mm, IPC Low Density)
pins: 1 ~{MCLR}/VPP (in), 2 RA0/AN0 (io), 3 RA1/AN1 (io), 4 RA2/AN2/VREF (io), 5 RA3/AN3 (io), 6 RA4/T0CKI (io), 7 RA5 (io) "PORTA is a bi-directional I/O port.", 8 VSS (power) "Ground reference for logic and I/O pins.", 9 OSC1/CLKIN (in), 10 OSC2/CLKOUT (out), 11 RC0 (io) "PORTC is a bi-directional I/O port.", 12 RC1 (io) "PORTC is a bi-directional I/O port.", 13 RC2 (io) "PORTC is a bi-directional I/O port.", 14 RC3 (io) "PORTC is a bi-directional I/O port.", 15 RC4 (io) "PORTC is a bi-directional I/O port.", 16 RC5 (io) "PORTC is a bi-directional I/O port.", 17 RC6 (io) "PORTC is a bi-directional I/O port.", 18 RC7 (io) "PORTC is a bi-directional I/O port.", 19 VSS (power) "Ground reference for logic and I/O pins.", 20 VDD (power) "Positive supply for logic and I/O pins.", 21 RB0/INT (io), 22 RB1 (io) "PORTB is a bi-directional I/O port. PORTB can be software programmed for internal weak pull-up on all inputs.", 23 RB2 (io) "PORTB is a bi-directional I/O port. PORTB can be software programmed for internal weak pull-up on all inputs.", 24 RB3 (io) "PORTB is a bi-directional I/O port. PORTB can be software programmed for internal weak pull-up on all inputs.", 25 RB4 (io) "PORTB is a bi-directional I/O port. PORTB can be software programmed for internal weak pull-up on all inputs. Interrupt on change pin.", 26 RB5 (io) "PORTB is a bi-directional I/O port. PORTB can be software programmed for internal weak pull-up on all inputs. Interrupt on change pin.", 27 RB6 (io) "PORTB is a bi-directional I/O port. PORTB can be software programmed for internal weak pull-up on all inputs. Interrupt on change pin. Serial programming clock.", 28 RB7 (io) "PORTB is a bi-directional I/O port. PORTB can be software programmed for internal weak pull-up on all inputs. Interrupt on change pin. Serial programming data."

## PIC16C642-04/SP
designator U?
8-Bit EPROM Microcontroller with Analog Comparator, 4 MHz, 22 I/O, 0 to 70 degC, 28-pin SPDIP (SP28), Tube; Manufacturer: Microchip; PartNumber: PIC16C642-04/SP; I/O Pins: 22; Max. CPU Speed MHz: 4; Memory Type: OTP; Operation Voltage Range: 3V - 6V; Program Memory KBytes: 7; RAM: 176; Timers: 1 - 8-bit; DatasheetVersion: Rev. A; PackageVersion: C04-070B, 12/2012; PackageReference: SPDIP-SP28; PackageDescription: 28-Lead Plastic Dual In-Line, 34.86 x 6.79 mm Body, 2.54 mm Pitch; Supplier 1: Digi-Key; Supplier Part Number 1: PIC16C642-04/SP-ND; Supplier 2: Newark; Supplier Part Number 2: 96K3815; Supplier 3: Mouser; Supplier Part Number 3: 579-PIC16C642-04/SP; Packing: TUBE; Program Memory KWords: 4; RoHS: TRUE; Mounting Technology: Through Hole; ComponentLink1Description: Datasheet; ComponentLink1URL: http://ww1.microchip.com/downloads/en/DeviceDoc/30559a.pdf; ComponentLink2Description: Package Specification; ComponentLink2URL: http://www.microchip.com/stellent/groups/techpub_sg/documents/packagingspec/en012702.pdf; ComponentLink3Description: URL Link1; ComponentLink3URL: Product URL:http://www.microchip.com/datasheet/PIC16C642
footprint MCHP-SPDIP-SP28 (DIP, 28-Leads, Body 34.86x6.79mm, Pitch 2.54mm)
pins: 1 ~{MCLR}/VPP (in), 2 RA0/AN0 (io), 3 RA1/AN1 (io), 4 RA2/AN2/VREF (io), 5 RA3/AN3 (io), 6 RA4/T0CKI (io), 7 RA5 (io) "PORTA is a bi-directional I/O port.", 8 VSS (power) "Ground reference for logic and I/O pins.", 9 OSC1/CLKIN (in), 10 OSC2/CLKOUT (out), 11 RC0 (io) "PORTC is a bi-directional I/O port.", 12 RC1 (io) "PORTC is a bi-directional I/O port.", 13 RC2 (io) "PORTC is a bi-directional I/O port.", 14 RC3 (io) "PORTC is a bi-directional I/O port.", 15 RC4 (io) "PORTC is a bi-directional I/O port.", 16 RC5 (io) "PORTC is a bi-directional I/O port.", 17 RC6 (io) "PORTC is a bi-directional I/O port.", 18 RC7 (io) "PORTC is a bi-directional I/O port.", 19 VSS (power) "Ground reference for logic and I/O pins.", 20 VDD (power) "Positive supply for logic and I/O pins.", 21 RB0/INT (io), 22 RB1 (io) "PORTB is a bi-directional I/O port. PORTB can be software programmed for internal weak pull-up on all inputs.", 23 RB2 (io) "PORTB is a bi-directional I/O port. PORTB can be software programmed for internal weak pull-up on all inputs.", 24 RB3 (io) "PORTB is a bi-directional I/O port. PORTB can be software programmed for internal weak pull-up on all inputs.", 25 RB4 (io) "PORTB is a bi-directional I/O port. PORTB can be software programmed for internal weak pull-up on all inputs. Interrupt on change pin.", 26 RB5 (io) "PORTB is a bi-directional I/O port. PORTB can be software programmed for internal weak pull-up on all inputs. Interrupt on change pin.", 27 RB6 (io) "PORTB is a bi-directional I/O port. PORTB can be software programmed for internal weak pull-up on all inputs. Interrupt on change pin. Serial programming clock.", 28 RB7 (io) "PORTB is a bi-directional I/O port. PORTB can be software programmed for internal weak pull-up on all inputs. Interrupt on change pin. Serial programming data."